# EAGLE library part UWE-24/5-Q12PB-C (library ICs)
The UWE-Q12 series open frame DC-DC converters deliver up to 120W in an industry-standard “eighth-brick” through-hole package with a Vin range of 9-36VDC. Output voltage of 24VDC at 5A.
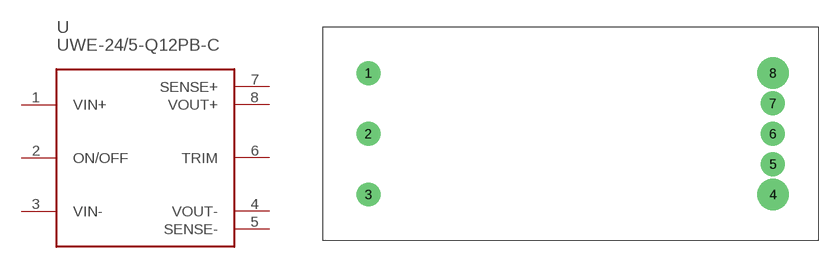
[diagram p295: symbol with the pads of UWE-Q12; footprint UWE-Q12]

Designator prefix U

## UWE-24/5-Q12PB-C (DIGIKEY: 811-UWE-24/5-Q12PB-C-ND; HEIGHT: 13.2; PRICE_PER: 57.11; VALUE: UWE-24/5-Q12PB-C)  [UWE-Q12]
1  VIN+
2  ON/OFF
3  VIN-
4  VOUT-
5  SENSE-
6  TRIM
7  SENSE+
8  VOUT+

## Footprint UWE-Q12 (pad centres in mm)
drill 1.4 pad 3: 1 -25.4,7.62; 2 -25.4,0; 3 -25.4,-7.62; 5 25.4,-3.81; 6 25.4,0; 7 25.4,3.81
drill 1.91 pad 4: 4 25.4,-7.62; 8 25.4,7.62